# Altium schematic symbol library COMBICON MKDS - 3.5mm.SchLib: 3 symbols
Pins are listed as number, name and electrical type; pins without a type are passive.

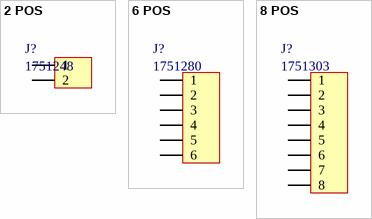
[diagram p0: symbols 2 POS to 8 POS]

## 2 POS
designator J?, comment 1751248
TERM BLK 6POS SIDE ENT 3.5MM PCB; Manufacturer: Phoenix Contact; ComponentLink1 Description: Manufacturer; ComponentLink2 Description: Datasheet; NoPins: 2; ComponentLink1 URL: http://www.we-online.com; ComponentLink2 URL: http://katalog.we-online.de/em/datasheet/6912431100xx.pdf; Created By: Baojun Chen; Created Date: 27.Aug.2015; PartNo: 1751248
footprint 1751248 - 2 POS
pins: 1, 2

## 6 POS
designator J?, comment 1751280
TERM BLK 6POS SIDE ENT 3.5MM PCB; Manufacturer: Phoenix Contact; ComponentLink1 Description: Manufacturer; ComponentLink2 Description: Datasheet; NoPins: 6; ComponentLink1 URL: http://www.we-online.com; ComponentLink2 URL: http://katalog.we-online.de/em/datasheet/6912431100xx.pdf; Created By: Baojun Chen; Created Date: 27.Aug.2015; PartNo: 1751280
footprint 1751280 - 6 POS
pins: 1, 2, 3, 4, 5, 6

## 8 POS
designator J?, comment 1751303
TERM BLK 8POS SIDE ENT 3.5MM PCB; Manufacturer: Phoenix Contact; ComponentLink1 Description: Manufacturer; ComponentLink2 Description: Datasheet; NoPins: 8; ComponentLink1 URL: http://www.we-online.com; ComponentLink2 URL: http://katalog.we-online.de/em/datasheet/6912431100xx.pdf; Created By: Baojun Chen; Created Date: 27.Aug.2015; PartNo: 1751303
footprint 1751303 - 8 POS
pins: 1, 2, 3, 4, 5, 6, 7, 8